# EAGLE library part MAX680CSA+ (library MAX680CSA+)
Charge Pump INV/STPUP 10V 10mA Source: Datasheet <https://datasheet.datasheetarchive.com/originals/distributors/Datasheets-18/DSA-340121.pdf>
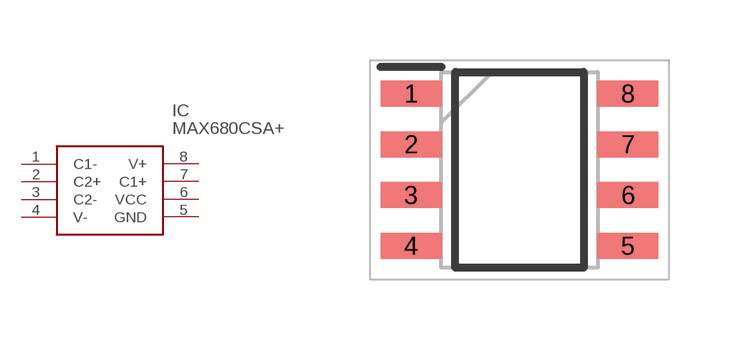
[diagram p0: symbol with the pads of SOIC127P600X175-8N; footprint SOIC127P600X175-8N]

Designator prefix IC

## MAX680CSA+ (Description: Charge Pump INV/STPUP 10V 10mA; Height: 1.75mm; Manufacturer_Name: Analog Devices; Manufacturer_Part_Number: MAX680CSA+; Mouser_Part_Number: 700-MAX680CSA; Mouser_Price-Stock: https://www.mouser.co.uk/ProductDetail/Analog-Devices-Maxim-Integrated/MAX680CSA%2b?qs=1THa7WoU59GmJru%252B3pd8uQ%3D%3D)  [SOIC127P600X175-8N]
1  C1-
2  C2+
3  C2-
4  V-
5  GND
6  VCC
7  C1+
8  V+

## Footprint SOIC127P600X175-8N (pad centres in mm)
8 SO-3
smd 1.525 x 0.65: 1 -2.712,1.905; 2 -2.712,0.635; 3 -2.712,-0.635; 4 -2.712,-1.905; 5 2.712,-1.905; 6 2.712,-0.635; 7 2.712,0.635; 8 2.712,1.905